# Altium integrated library LIB2022 - Passives.IntLib: 16 symbols
Pins are listed as number, name and electrical type; pins without a type are passive.

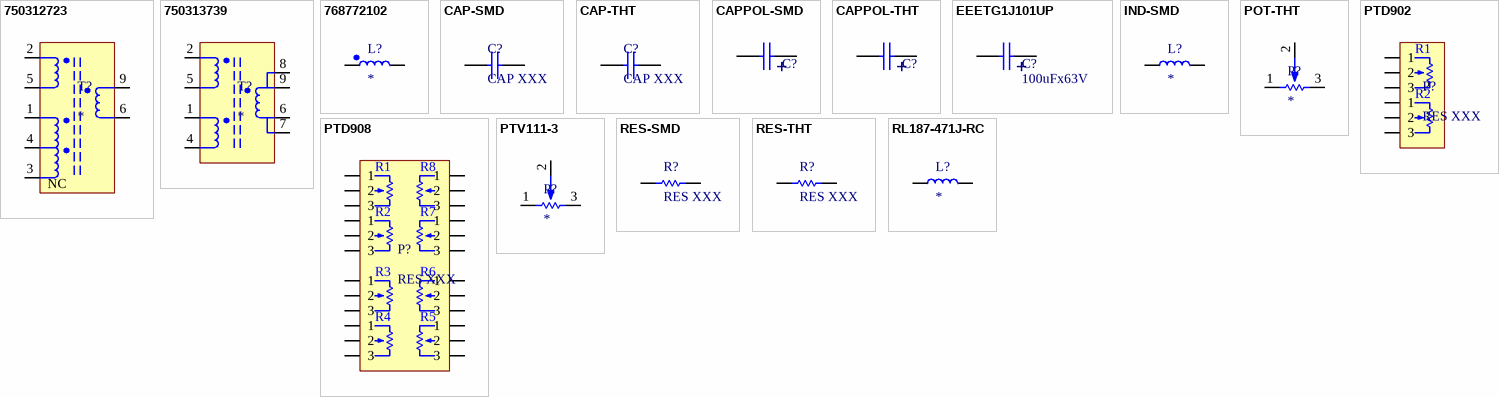
[diagram p0: symbols 750312723 to RL187-471J-RC]

## 750312723
designator T?
Flyback Converters For For DC/DC Converters SMPS Transformer 4500Vrms Isolation 130kHz Through Hole
footprint 750312723
pins: 1, 2, 3 NC, 4, 5, 6, 9

## 750313739
designator T?
Flyback Converters For SMPS Transformer Isolation 115kHz Through Hole
footprint 750313739
pins: 1, 2, 4, 5, 6, 7, 8, 9

## 768772102
designator L?
1 mH Unshielded Drum Core, Wirewound Inductor 500 mA 2.08Ohm Max Radial, Vertical Cylinder (Open)
footprint 768772102
pins: 1, 2

## CAP-SMD
designator C?, comment CAP XXX
footprint 0402-CAP-TDK
footprint 0603-CAP-TDK
footprint 0805-CAP-TDK
footprint 1206-CAP-TDK
footprint 1210-CAP-TDK
pins: 1, 2

## CAP-THT
designator C?, comment CAP XXX
footprint CAP100
footprint CAP200
footprint CAP300
pins: 1, 2

## CAPPOL-SMD
designator C?
footprint DIA8X10-CAP-SMD
pins: 1, 2
text: +

## CAPPOL-THT
designator C?
footprint CAP100RP (Body diameter 5mm)
footprint CAP200RP (Body Diameter 10.33mm)
footprint CAP300RP (Body Diameter 16mm)
pins: 1, 2
text: +

## EEETG1J101UP
designator C?, comment 100uFx63V
footprint DIA10X10.2-CAP-SMD
pins: 1, 2
text: +

## IND-SMD
designator L?
footprint CLF7045NIT-470M-D (NonStandard Inductor)
pins: 1, 2

## POT-THT
designator P?
footprint POT-THT
pins: 1, 2, 3

## PTD902
designator P?, comment RES XXX
Multi-Ganged Potentiometer
footprint PTD902-XX15K-XXXX
pins: R1-1 1, R1-2 2, R1-3 3, R2-1 1, R2-2 2, R2-3 3
text: R1; R2

## PTD908
designator P?, comment RES XXX
Multi-Ganged Potentiometer
footprint PTD908-XX15K-XXXX
pins: R1-1 1, R1-2 2, R1-3 3, R2-1 1, R2-2 2, R2-3 3, R3-1 1, R3-2 2, R3-3 3, R4-1 1, R4-2 2, R4-3 3, R5-1 1, R5-2 2, R5-3 3, R6-1 1, R6-2 2, R6-3 3, R7-1 1, R7-2 2, R7-3 3, R8-1 1, R8-2 2, R8-3 3
text: R1; R8; R2; R7; R3; R6; R4; R5

## PTV111-3
designator P?
footprint PTV111-3
pins: 1, 2, 3

## RES-SMD
designator R?, comment RES XXX
footprint 0402-RES-PANASONIC
footprint 0603-RES-PANASONIC
footprint 0805-RES-PANASONIC
footprint 1206-RES-PANASONIC
footprint 2512-RES-PANASONIC
footprint 0201-RES-PANASONIC
footprint 2010-RES-PANASONIC
pins: 1, 2

## RES-THT
designator R?, comment RES XXX
footprint RES300
footprint RES400
footprint RES500
footprint RES600
footprint RES1000
footprint RES1000 - NOSILK
pins: 1, 2

## RL187-471J-RC
designator L?
footprint RL187-471J-RC
pins: 1, 2